# EAGLE library part MRF24J40 (library BaseApp)
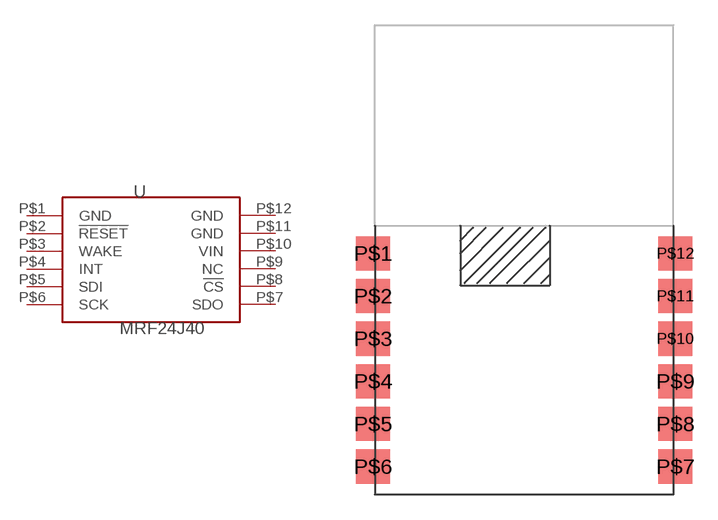
[diagram p87: symbol with the pads of MRF24J40MA; footprint MRF24J40MA]

Designator prefix -

## MRF24J40-MA  [MRF24J40MA]
P$1  GND  sup
P$2  !RESET
P$3  WAKE
P$4  INT
P$5  SDI
P$6  SCK
P$7  SDO
P$8  !CS
P$9  NC
P$10  VIN  pwr
P$11  GND  sup
P$12  GND  sup

## Footprint MRF24J40MA (pad centres in mm)
smd 2.032 x 2.032: P$1 -9,6.35; P$2 -9,3.81; P$3 -9,1.27; P$4 -9,-1.27; P$5 -9,-3.81; P$6 -9,-6.35; P$7 9,-6.35; P$8 9,-3.81; P$9 9,-1.27; P$10 9,1.27; P$11 9,3.81; P$12 9,6.35